# Altium footprint library SOT-23.PcbLib: 1 footprints
Each footprint in its own frame and in the unit in brackets; x right, y up, seen from the top. Pads: shape width x height; smd on the part's side, far side on the other; paste and mask are expansions set on the pad; w line width, h text height; cw(c..) or ccw(c..) is an arc to the next point about the centre after c.
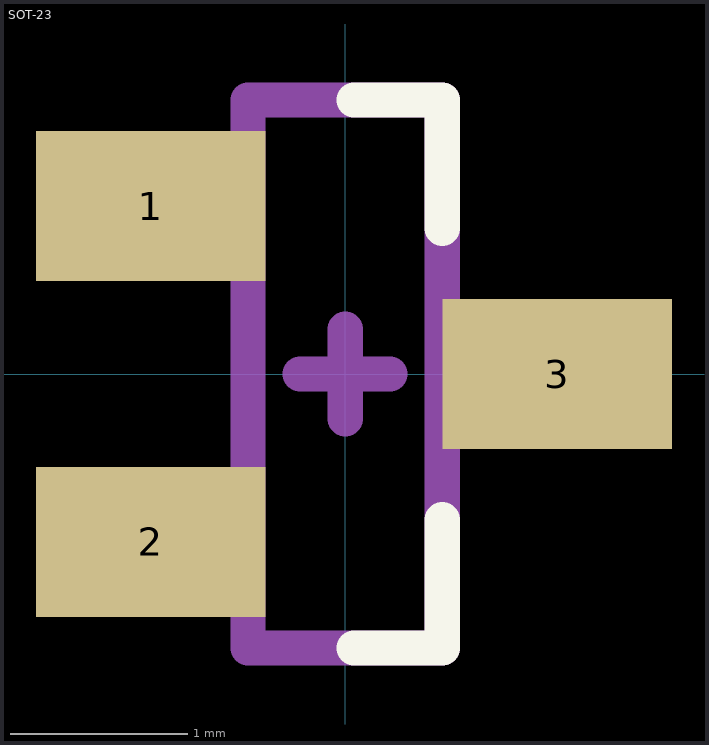
[diagram p0: the footprint, top view; thin cyan lines are the x and y axes]

## SOT-23 [mm] "SOT23, 3-Leads, Body 3,1x2,5mm (max), Pitch 0,95mm, IPC Medium Density"
height 1.1
pads (3):
  rect 1.3x0.85 smd: 1(-1.1,0.95) 2(-1.1,-0.95) 3(1.2,0)
Top Overlay:
  lines w0.2: 0.05,-1.55 0.55,-1.55 0.55,-0.825 ; 0.05,1.55 0.55,1.55 0.55,0.825
Mechanical 13:
  lines w0.2: -0.55,-1.55 0.55,-1.55 0.55,1.55 -0.55,1.55 -0.55,-1.55
  text ".Designator" at -0.635,-2.794 h1.52
Mechanical 15:
  lines w0.2: -0.254,0 0.254,0 ; 0,-0.254 0,0.254
3D body: height 1, standoff -0.02, extent -1.27,-1.46 1.206,1.46